# EAGLE library part MAX44284 (library chips_old)
A precision current amplifier that can do low or high side sensing
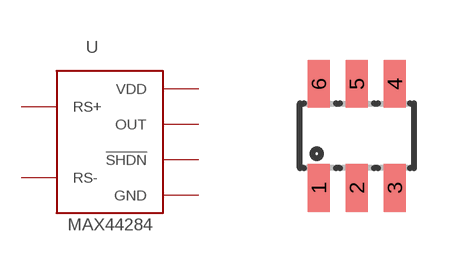
[diagram p64: symbol with the pads of SOT-23-6; footprint SOT-23-6]

Designator prefix -

## MAX44284 (DIGIKEY: MAX44284FAUT+TCT-ND)  [SOT-23-6]
1  VDD
2  GND
3  RS+
4  RS-
5  OUT
6  !SHDN

## Footprint SOT-23-6 (pad centres in mm)
Small Outline Transistor
smd 0.55 x 1.2: 1 -0.95,-1.3; 2 0,-1.3; 3 0.95,-1.3; 4 0.95,1.3; 5 0,1.3; 6 -0.95,1.3